# EAGLE library part CON_01X11 (library MF_Connectors)
Library: MF_Connectors Description: Header Connector with 11 Positions and 01 Rows. Use the LABEL Attribute to label the pin on the schematic and PCB. You can remove the attributes on the PCB by using the SMASH function on the part and then deleting the text.
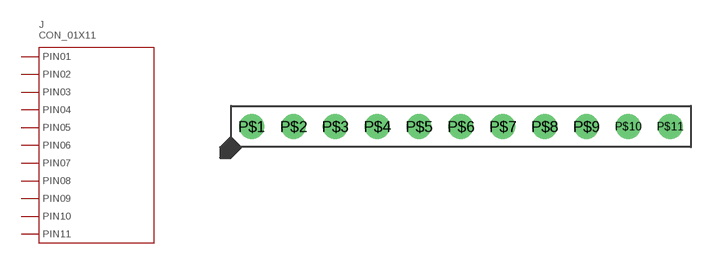
[diagram p8: symbol with the pads of PTH_2.54MM_01X11; footprint PTH_2.54MM_01X11]

Designator prefix J

## CON_01X11_PTH_2.54MM (HOUSEPART: YES; MPN: MF-CON-2.54mm-01x11; POPULATE: 1; URL: https://factory.macrofab.com/part/MF-CON-2.54mm-01x11; VALUE: MF-CON-2.54mm-01x11)  [PTH_2.54MM_01X11]
P$1  PIN1
P$2  PIN2
P$3  PIN3
P$4  PIN4
P$5  PIN5
P$6  PIN6
P$7  PIN7
P$8  PIN8
P$9  PIN9
P$10  PIN10
P$11  PIN11

## Footprint PTH_2.54MM_01X11 (pad centres in mm)
Description: Package for 2.54MM Pitch Header 11 Position. Based on 4UCON 00834.
drill 1: P$1 -12.7,0; P$2 -10.16,0; P$3 -7.62,0; P$4 -5.08,0; P$5 -2.54,0; P$6 0,0; P$7 2.54,0; P$8 5.08,0; P$9 7.62,0; P$10 10.16,0; P$11 12.7,0